# EAGLE library part MICROSD (library mbed-connectors)
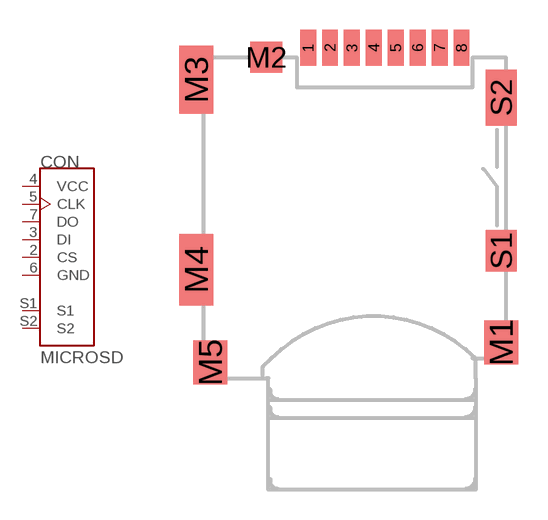
[diagram p5: symbol with the pads of MOLEX_MICROSD; footprint MOLEX_MICROSD]

Designator prefix CON

## MICROSDMOLEX_MIROSD  [MOLEX_MICROSD]
2  CS
3  DI
4  VCC  pas
5  CLK
6  GND  sup
7  DO
S1  S1
S2  S2

## Footprint MOLEX_MICROSD (pad centres in mm)
Molex 49225-0821 Micro-SD Connector
smd 0.8 x 1.8: 1 -3.89,10.66; 2 -2.79,10.66; 3 -1.69,10.66; 4 -0.59,10.66; 5 0.51,10.66; 6 1.61,10.66; 7 2.71,10.66; 8 3.81,10.66
smd 1.7 x 2.2: M1 5.8,-4.14; M5 -8.8,-5.14
smd 1.6 x 1.55: M2 -5.99,10.185
smd 1.7 x 3.4: M3 -9.5,9.06
smd 1.7 x 3.6: M4 -9.5,-0.49
smd 1.55 x 2.1: S1 5.8,0.46
smd 1.55 x 2.8: S2 5.8,8.16